# Altium footprint library B6000.PcbLib: 1 footprints
Each footprint in its own frame and in the unit in brackets; x right, y up, seen from the top. Pads: shape width x height; smd on the part's side, far side on the other; paste and mask are expansions set on the pad; w line width, h text height; cw(c..) or ccw(c..) is an arc to the next point about the centre after c.
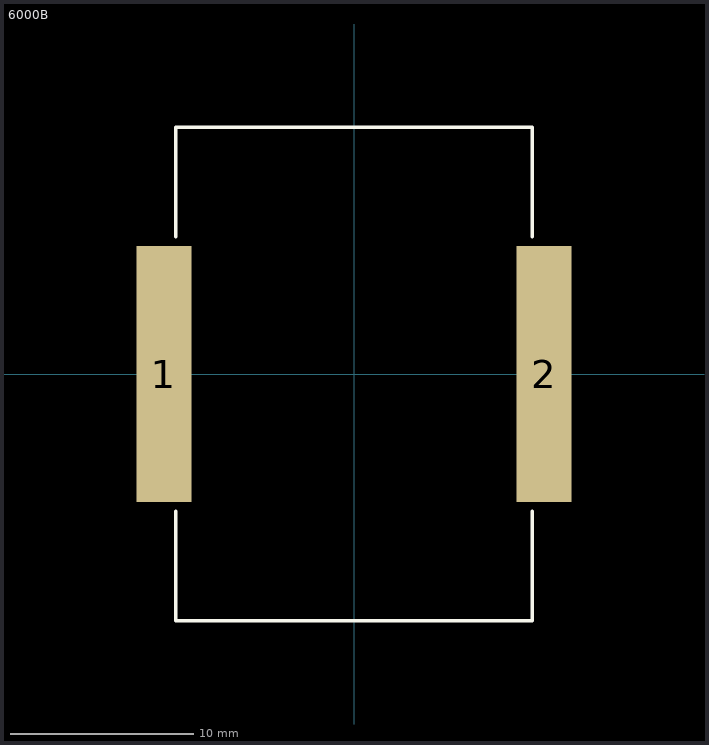
[diagram p0: the footprint, top view; thin cyan lines are the x and y axes]

## 6000B [mm] "SMD Inductor"
pads (2):
  rect 3x14 smd: 1(-10.4,0) 2(10.4,0)
Top Overlay:
  lines w0.2: -9.75,-7.5 -9.75,-13.5 9.75,-13.5 9.75,-7.5 ; -9.75,7.5 -9.75,13.5 9.75,13.5 9.75,7.5
Top Designator:
  text ".Designator" at -1.2,0.75 h0.5
Top Value:
  text ".Comment" at -1.2,0.325 h0.5
3D body "Part1.STEP": height 20, standoff 0, extent -11.75,-13.5 11.75,13.5